# Altium footprint library BFCN5100.PcbLib: 1 footprints
Each footprint in its own frame and in the unit in brackets; x right, y up, seen from the top. Pads: shape width x height; smd on the part's side, far side on the other; paste and mask are expansions set on the pad; w line width, h text height; cw(c..) or ccw(c..) is an arc to the next point about the centre after c.
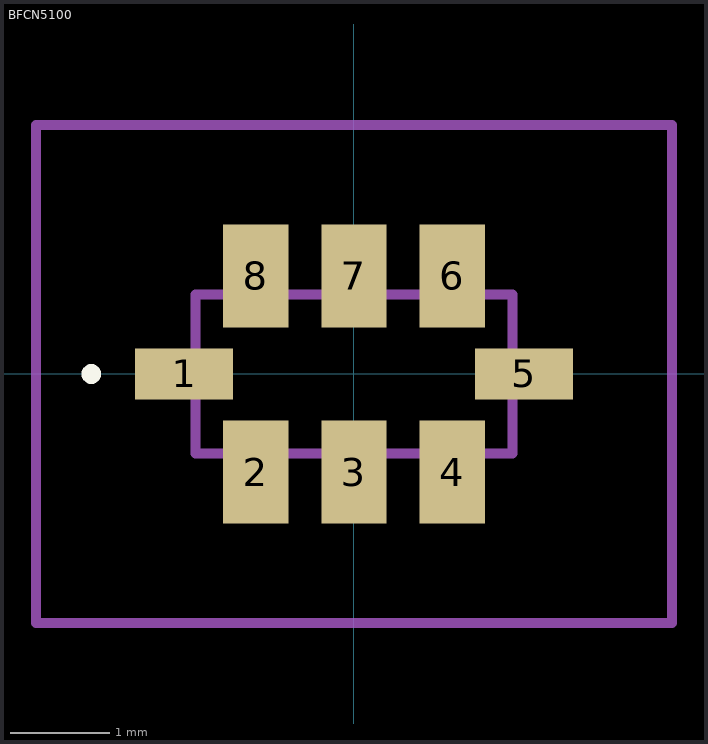
[diagram p0: the footprint, top view; thin cyan lines are the x and y axes]

## BFCN5100 [mm]
pads (8):
  rect 0.99x0.51 smd: 1(-1.715,0) 5(1.715,0)
  rect 0.66x1.04 smd: 2(-0.99,-0.99) 3(0,-0.99) 4(0.99,-0.99) 6(0.99,0.99) 7(0,0.99) 8(-0.99,0.99)
Top Overlay:
  lines w0.1: -2.7,0 cw(c-2.65,0) -2.6,0 ; -2.7,0 -2.7,0 ; -2.7,0 ccw(c-2.65,0) -2.6,0 ; -2.6,0 -2.6,0
Mechanical 15:
  lines w0.1: -1.6,-0.8 1.6,-0.8 1.6,0.8 -1.6,0.8 -1.6,-0.8
Mechanical 20:
  lines w0.1: -3.21,-2.51 3.21,-2.51 3.21,2.51 -3.21,2.51 -3.21,-2.51